# Altium schematic symbol library aKaReZa75-IC.SchLib: 139 symbols (part 2 of 2)
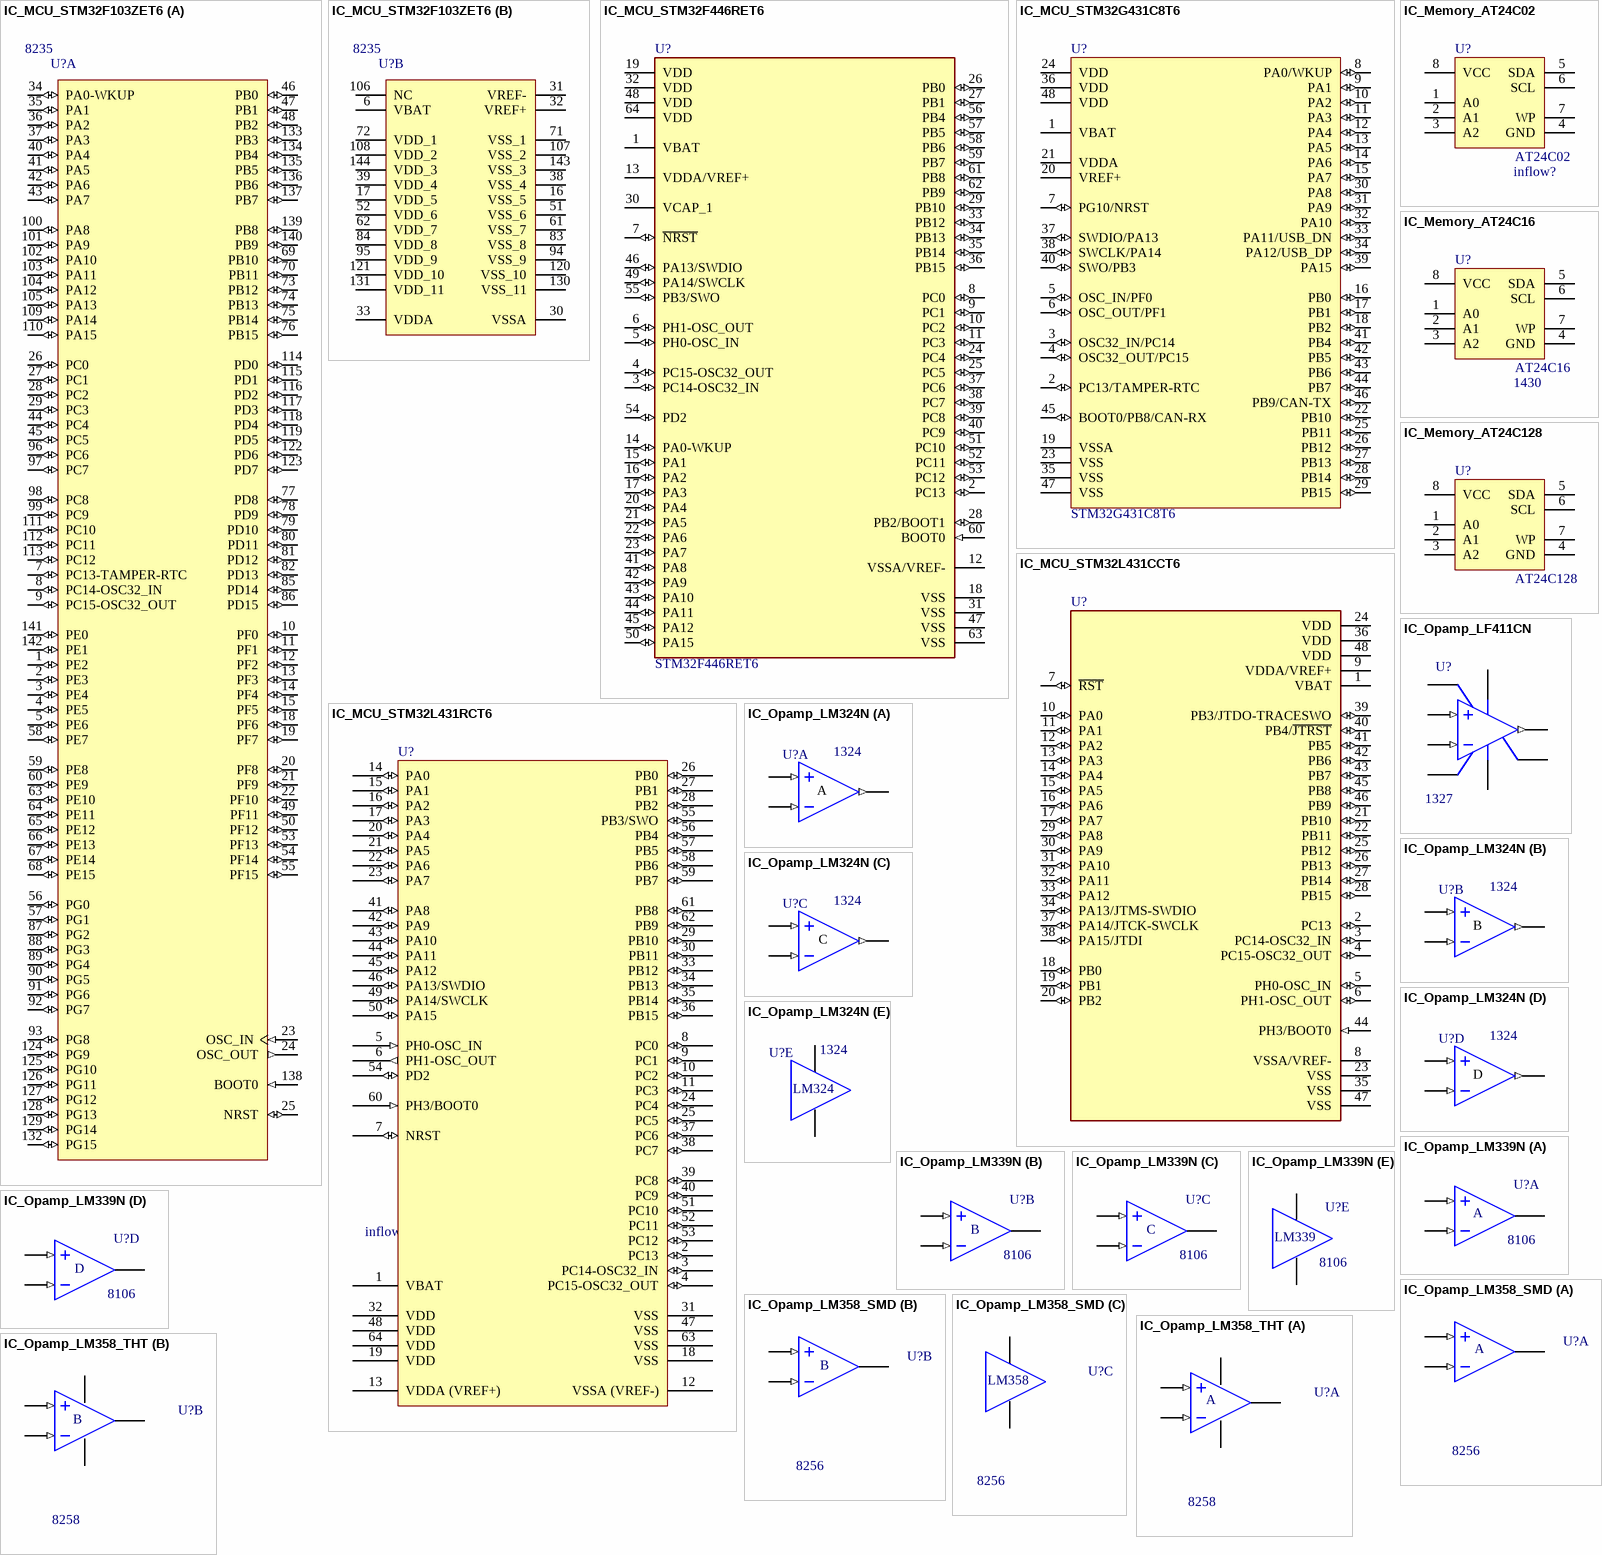
[diagram p7: symbols IC_MCU_STM32F103ZET6 to IC_Opamp_LM358_THT]

## IC_MCU_STM32L431CCT6
designator U?, comment STM32L431RCT6  (value not drawn)
32-Bit microcontroller; Rating: Rating?; Validation: Valid; Inflow: Inflow?; Value: STM32L431RCT6; Package: Package?; Type: Type?
footprint LQFP48_M (Thin QFP, 48-Leads, Body 7x7mm, Pitch 0.5mm, IPC Low Density)
footprint LQFP48_N (Thin QFP, 48-Leads, Body 7x7mm, Pitch 0.5mm, IPC Medium Density)
footprint LQFP48_L (Thin QFP, 48-Leads, Body 7x7mm, Pitch 0.5mm, IPC High Density)
pins: 1 VBAT (power), 2 PC13 (io), 3 PC14-OSC32_IN (io), 4 PC15-OSC32_OUT (io), 5 PH0-OSC_IN (io), 6 PH1-OSC_OUT (io), 7 ~{RST} (io), 8 VSSA/VREF- (power), 9 VDDA/VREF+ (power), 10 PA0 (io), 11 PA1 (io), 12 PA2 (io), 13 PA3 (io), 14 PA4 (io), 15 PA5 (io), 16 PA6 (io), 17 PA7 (io), 18 PB0 (io), 19 PB1 (io), 20 PB2 (io), 21 PB10 (io), 22 PB11 (io), 23 VSS (power), 24 VDD (power), 25 PB12 (io), 26 PB13 (io), 27 PB14 (io), 28 PB15 (io), 29 PA8 (io), 30 PA9 (io), 31 PA10 (io), 32 PA11 (io), 33 PA12 (io), 34 PA13/JTMS-SWDIO (io), 35 VSS (power), 36 VDD (power), 37 PA14/JTCK-SWCLK (io), 38 PA15/JTDI (io), 39 PB3/JTDO-TRACESWO (io), 40 PB4/~{JTRST} (io), 41 PB5 (io), 42 PB6 (io), 43 PB7 (io), 44 PH3/BOOT0 (in), 45 PB8 (io), 46 PB9 (io), 47 VSS (power), 48 VDD (power)

## IC_MCU_STM32L431RCT6
designator U?, comment Inflow: inflow?  (hidden comment: STM32L431RCT6)
32-Bit microcontroller; Rating: Rating?; Validation: NT; Value: STM32L431RCT6; Package: Package?; Type: Type?
footprint LQFP64_L (Thin QFP, 64-Leads, Body 10x10mm, Pitch 0.5mm, IPC High Density)
footprint LQFP64_N (Thin QFP, 64-Leads, Body 10x10mm, Pitch 0.5mm, IPC Medium Density)
footprint LQFP64_M (Thin QFP, 64-Leads, Body 10x10mm, Pitch 0.5mm, IPC Low Density)
pins: 1 VBAT (power) "VCC", 2 PC13 (io), 3 PC14-OSC32_IN (io), 4 PC15-OSC32_OUT (io), 5 PH0-OSC_IN (in), 6 PH1-OSC_OUT (out), 7 NRST (io), 8 PC0 (io), 9 PC1 (io), 10 PC2 (io), 11 PC3 (io), 12 VSSA (VREF-) (power) "GND", 13 VDDA (VREF+) (power) "VCC", 14 PA0 (io), 15 PA1 (io), 16 PA2 (io), 17 PA3 (io), 18 VSS (power) "GND", 19 VDD (power) "VCC", 20 PA4 (io), 21 PA5 (io), 22 PA6 (io), 23 PA7 (io), 24 PC4 (io), 25 PC5 (io), 26 PB0 (io), 27 PB1 (io), 28 PB2 (io), 29 PB10 (io), 30 PB11 (io), 31 VSS (power) "GND", 32 VDD (power) "VCC", 33 PB12 (io), 34 PB13 (io), 35 PB14 (io), 36 PB15 (io), 37 PC6 (io), 38 PC7 (io), 39 PC8 (io), 40 PC9 (io), 41 PA8 (io), 42 PA9 (io), 43 PA10 (io), 44 PA11 (io), 45 PA12 (io), 46 PA13/SWDIO (io), 47 VSS (power) "GND", 48 VDD (power) "VCC", 49 PA14/SWCLK (io), 50 PA15 (io), 51 PC10 (io), 52 PC11 (io), 53 PC12 (io), 54 PD2 (io), 55 PB3/SWO (io), 56 PB4 (io), 57 PB5 (io), 58 PB6 (io), 59 PB7 (io), 60 PH3/BOOT0 (in), 61 PB8 (io), 62 PB9 (io), 63 VSS (power) "GND", 64 VDD (power) "VCC"

## IC_Memory_AT24C02
designator U?, comment Inflow: inflow?  (hidden comment: AT24C02)
EEPROM Memory; Rating: 2K; Validation: Valid; Type: EEPROM; Package: SO-8; Value: AT24C02
footprint dip8
footprint SO8_NARROW_L (8-Pin Small Outline Package (SO8), IPC High Density)
footprint SO8_NARROW_M (8-Pin Small Outline Package (SO8), IPC Low Density)
footprint SO8_NARROW_N (8-Pin Small Outline Package (SO8), IPC Medium Density)
pins: 1 A0 "Address Inputs", 2 A1 "Address Inputs", 3 A2 "Address Inputs", 4 GND "Ground", 5 SDA "Serial Data", 6 SCL "Serial Clock Input", 7 WP "Write Protect", 8 VCC "Power Supply"

## IC_Memory_AT24C16
designator U?, comment Inflow: 1430  (hidden comment: AT24C16)
EEPROM Memory; Rating: 16K; Validation: NT; Type: EEPROM; Package: SO-8; Value: AT24C16
footprint dip8
footprint SO8_NARROW_L (8-Pin Small Outline Package (SO8), IPC High Density)
footprint SO8_NARROW_M (8-Pin Small Outline Package (SO8), IPC Low Density)
footprint SO8_NARROW_N (8-Pin Small Outline Package (SO8), IPC Medium Density)
pins: 1 A0 "Address Inputs", 2 A1 "Address Inputs", 3 A2 "Address Inputs", 4 GND "Ground", 5 SDA "Serial Data", 6 SCL "Serial Clock Input", 7 WP "Write Protect", 8 VCC "Power Supply"

## IC_Memory_AT24C128
designator U?, comment AT24C128
EEPROM Memory; Rating: 128K; Validation: NT; Inflow: inflow?; Type: EEPROM; Package: SO-8; Value: AT24C128
footprint dip8
footprint SO8_NARROW_L (8-Pin Small Outline Package (SO8), IPC High Density)
footprint SO8_NARROW_M (8-Pin Small Outline Package (SO8), IPC Low Density)
footprint SO8_NARROW_N (8-Pin Small Outline Package (SO8), IPC Medium Density)
pins: 1 A0 "Address Inputs", 2 A1 "Address Inputs", 3 A2 "Address Inputs", 4 GND "Ground", 5 SDA "Serial Data", 6 SCL "Serial Clock Input", 7 WP "Write Protect", 8 VCC "Power Supply"

## IC_Opamp_LF411CN
designator U?, comment Inflow: 1327  (hidden comment: LF411)
Low offset, low drift JFET input operational amplifie; Rating: Rating?; Validation: NT; Value: LF411; Package: Package?; Type: Type?
footprint CDIP8 (8-Pin Ceramic DIP (DD8) NARROW_(300mil width) - 100mil pitch)
footprint SOIC8-Narrow (SOIC, 8-Leads, Body 3.0x3.0mm (max), Pitch 1.27mm, IPC Medium Density)
pins: 1 BAL, 2 IN- (in), 3 IN+ (in), 4 V- (power), 5 BAL, 6 OUT (out), 7 V+ (power), 8 NC

## IC_Opamp_LM324N
designator U?, comment Inflow: 1324  (hidden comment: LM324)
Low power quad operational amplifiers; Rating: Rating?; Validation: NT; Value: LM324; Package: Package?; Type: Type?
footprint PDIP14 (14-Pin Plastic DIP (DD14) NARROW_(300mil width) - 100mil pitch)
footprint SOIC14-Narrow
part A pins: 1 OUT (out), 2 IN- (in), 3 IN+ (in)
part B pins: 5 IN+ (in), 6 IN- (in), 7 OUT (out)
part C pins: 8 OUT (out), 9 IN- (in), 10 IN+ (in)
part D pins: 12 IN+ (in), 13 IN- (in), 14 OUT (out)
part E pins: 4 V+, 11 V-
part A text: A
part B text: B
part C text: C
part D text: D

## IC_Opamp_LM339N
designator U?, comment Inflow: 8106  (hidden comment: LM339)
Low power quad voltage comparators; Rating: Rating?; Validation: NT; Value: LM339; Package: Package?; Type: Type?
footprint PDIP14 (14-Pin Plastic DIP (DD14) NARROW_(300mil width) - 100mil pitch)
footprint SOIC14-Narrow
part A pins: 2 OUT (oc), 4 IN- (in), 5 IN+ (in)
part B pins: 1 OUT (oc), 6 IN- (in), 7 IN+ (in)
part C pins: 8 IN- (in), 9 IN+ (in), 14 OUT (oc)
part D pins: 10 IN- (in), 11 IN+ (in), 13 OUT (oc)
part E pins: 3 V+, 12 V-
part A text: A
part B text: B
part C text: C
part D text: D

## IC_Opamp_LM358_SMD
designator U?, comment Inflow: 8256  (hidden comment: LM358)
Dual diffrential comparator; Rating: Rating?; Validation: Valid; Value: LM358; Package: Package?; Type: Type?
footprint SOIC8-Narrow (SOIC, 8-Leads, Body 3.0x3.0mm (max), Pitch 1.27mm, IPC Medium Density)
part A pins: 1 OUT (oc), 2 IN- (in), 3 IN+ (in)
part B pins: 5 IN+ (in), 6 IN- (in), 7 OUT (oc)
part C pins: 4 V-, 8 V+
part A text: A
part B text: B

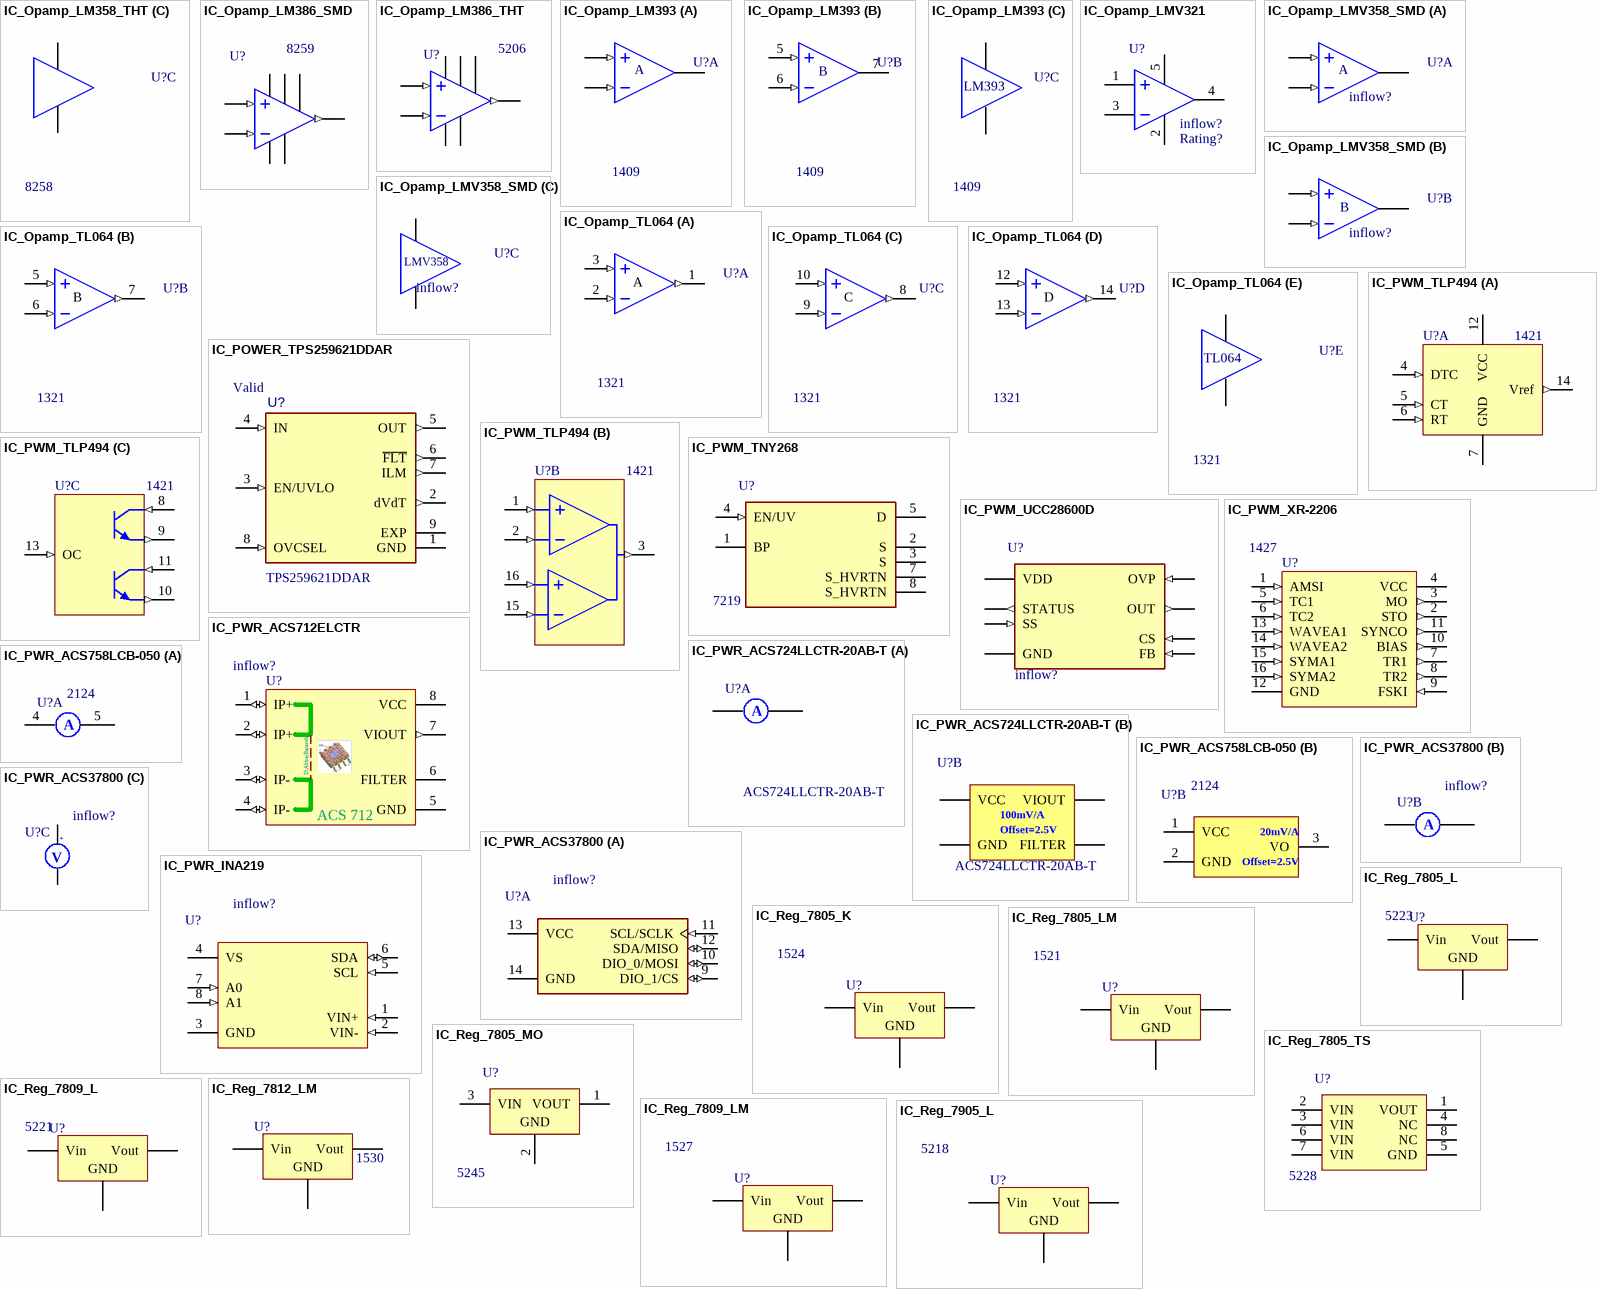
[diagram p5: symbols IC_Opamp_LM358_THT to IC_Reg_7905_L]

## IC_Opamp_LM358_THT
designator U?, comment Inflow: 8258  (hidden comment: LM358)
Dual diffrential comparator; Rating: Rating?; Validation: NT; Value: LM358; Package: Package?; Type: Type?
footprint CDIP8 (8-Pin Ceramic DIP (DD8) NARROW_(300mil width) - 100mil pitch)
pins on every part: 4 V- (power), 8 V+ (power)
part A pins: 1 OUT (oc), 2 IN- (in), 3 IN+ (in)
part B pins: 5 IN+ (in), 6 IN- (in), 7 OUT (oc)
part A text: A
part B text: B

## IC_Opamp_LM386_SMD
designator U?, comment Inflow: 8259  (hidden comment: LM386)
Low voltage audio power amplifier; Rating: Rating?; Validation: NT; Value: LM386; Package: Package?; Type: Type?
footprint SOIC8-Narrow (SOIC, 8-Leads, Body 3.0x3.0mm (max), Pitch 1.27mm, IPC Medium Density)
pins: 1 Gain (power), 2 IN- (in), 3 IN+ (in), 4 V- (power), 5 OUT (out), 6 V+ (power), 7 byPass (power), 8 Gain (power)

## IC_Opamp_LM386_THT
designator U?, comment Inflow: 5206  (hidden comment: LM386)
Low voltage audio power amplifier; Rating: Rating?; Validation: NT; Value: LM386; Package: Package?; Type: Type?
footprint CDIP8 (8-Pin Ceramic DIP (DD8) NARROW_(300mil width) - 100mil pitch)
pins: 1 Gain (power), 2 IN- (in), 3 IN+ (in), 4 V- (power), 5 OUT (out), 6 V+ (power), 7 byPass (power), 8 Gain (power)

## IC_Opamp_LM393
designator U?, comment Inflow: 1409  (hidden comment: LM393)
Dual diffrential comparator; Rating: Rating?; Validation: NT; Value: LM393; Package: Package?; Type: Type?
footprint CDIP8 (8-Pin Ceramic DIP (DD8) NARROW_(300mil width) - 100mil pitch)
footprint SOIC8-Narrow (SOIC, 8-Leads, Body 3.0x3.0mm (max), Pitch 1.27mm, IPC Medium Density)
part A pins: 1 OUT (oc), 2 IN- (in), 3 IN+ (in)
part B pins: 5 IN+ (in), 6 IN- (in), 7 OUT (oc)
part C pins: 4 V-, 8 V+
part A text: A
part B text: B

## IC_Opamp_LMV321
designator U?, comment Rating: Rating?  Inflow: inflow?  (hidden comment: LMV321)
Low-Voltage Rail-To-Rail Output Operational Amplifiers; Validation: Valid; Value: LMV321; Package: SOT-23-5; Type: Op-Amp
footprint SOT-23-5 (SOT-23/SC-74A; 5 Leads; Body 3 x 3 mm, inc. leads (LxW max))
pins: 1 1IN+ "Non-inverting input 1", 2 GND "Ground", 3 1IN– "Inverting input 1", 4 1OUT "Output 1", 5 VCC "Positive supply voltage"

## IC_Opamp_LMV358_SMD
designator U?, comment Inflow: inflow?  (hidden comment: LMV358)
Dual diffrential comparator; Rating: Rating?; Validation: NT; Package: SOIC-8; Value: LMV358; Type: Op-Amp
footprint SOIC8-Narrow (SOIC, 8-Leads, Body 3.0x3.0mm (max), Pitch 1.27mm, IPC Medium Density)
footprint PDIP-8 (PDIP, 8-Leads, Body 9.5x6.604mm, Pitch 2.54mm)
part A pins: 1 OUT (oc), 2 IN- (in), 3 IN+ (in)
part B pins: 5 IN+ (in), 6 IN- (in), 7 OUT (oc)
part C pins: 4 V-, 8 V+
part A text: A
part B text: B

## IC_Opamp_TL064
designator U?, comment Inflow: 1321  (hidden comment: TL064)
Low power JFET input operational amplifiers; Rating: Rating?; Validation: NT; Value: TL064; Package: Package?; Type: Type?
footprint PDIP14 (14-Pin Plastic DIP (DD14) NARROW_(300mil width) - 100mil pitch)
footprint SOIC14-Narrow
part A pins: 1 OUT (out), 2 IN- (in), 3 IN+ (in)
part B pins: 5 IN+ (in), 6 IN- (in), 7 OUT (out)
part C pins: 8 OUT (out), 9 IN- (in), 10 IN+ (in)
part D pins: 12 IN+ (in), 13 IN- (in), 14 OUT (out)
part E pins: 4 V+, 11 V-
part A text: A
part B text: B
part C text: C
part D text: D

## IC_POWER_TPS259621DDAR
designator U?, comment Validation: Valid  (hidden comment: TPS259621DDAR)
2.7-V to 19-V, 85mΩ, 0.13-2A eFuse with selectable over voltage protection clamp in leaded package; Rating: Rating?; Inflow: inflow?; Type: eFUSE; Package: SO-8; Value: TPS259621DDAR
footprint IC_TPS259621DDAR
pins: 1 GND (power), 2 dVdT (out), 3 EN/UVLO (in), 4 IN (in), 5 OUT (out), 6 ~{FLT} (out), 7 ILM (out), 8 OVCSEL (in), 9 EXP (power)

## IC_PWM_TLP494
designator U?, comment Inflow: 1421  (hidden comment: TLP494)
Pulse width modulation (PWM) control; Rating: Rating?; Validation: Valid; Value: TLP494; Package: Package?; Type: Type?
footprint PDIP16 (16-Pin Plastic DIP (DD16) NARROW_(300mil width) - 100mil pitch)
part A pins: 4 DTC (in) "Dead time control", 5 CT (in), 6 RT (in), 7 GND (power), 12 VCC (power), 14 Vref (out) "5'V References"
part B pins: 1 IN1+ (in) "V_FeedBack", 2 IN1- (in) "V_References", 3 Comp (out) "Feedback PWM  Comparator Input", 15 IN2- (in) "I_References", 16 IN2+ (in) "I_FeedBack"
part C pins: 8 C1 (in), 9 E1 (out), 10 E2 (out), 11 C2 (in), 13 OC (in) "VCC->PushPull, GND-> Single Ended"

## IC_PWM_TNY268
designator U?, comment Inflow: 7219  (hidden comment: TNY268)
Converter Offline Flyback Topology 132K'Hz, 23'Watt; Rating: Rating?; Validation: Valid; Value: TNY268; Package: Package?; Type: Type?
footprint TNY268
pins: 1 BP, 2 S, 3 S, 4 EN/UV (in), 5 D, 7 S_HVRTN, 8 S_HVRTN

## IC_PWM_UCC28600D
designator U?, comment Inflow: inflow?  (hidden comment: UCC28600D)
8-pin quasi resonant Flyback green mode controller; Rating: Rating?; Validation: NT; Value: UCC28600D; Package: Package?; Type: Type?
footprint SOIC-8 (SOIC, 8-Leads, Body 4/90x3/90mm, Pitch 1/27mm, IPC Medium Density)
pins: 1 SS (in), 2 FB (in), 3 CS (in), 4 GND (power), 5 OUT (out), 6 VDD (power), 7 OVP (in), 8 STATUS (out)

## IC_PWM_XR-2206
designator U?, comment Inflow: 1427  (hidden comment: XR-2206)
Monolithic function generator; Rating: Rating?; Validation: NT; Value: XR-2206; Package: Package?; Type: Type?
footprint PDIP16 (16-Pin Plastic DIP (DD16) NARROW_(300mil width) - 100mil pitch)
pins: 1 AMSI (in), 2 STO (out), 3 MO (out), 4 VCC (power), 5 TC1 (in), 6 TC2 (in), 7 TR1 (out), 8 TR2 (out), 9 FSKI (in), 10 BIAS (out), 11 SYNCO (out), 12 GND (power), 13 WAVEA1 (in), 14 WAVEA2 (in), 15 SYMA1 (in), 16 SYMA2 (in)

## IC_PWR_ACS712ELCTR
designator U?, comment Inflow: inflow?  (hidden comment: ACS712-5A)
Fully Integrated, Hall Effect-Based Linear Current Sensor IC  with 2.1 kVRMS Isolation and a Low-Resistance Current Conductor; Rating: Rating?; Validation: NT; Value: ACS712-5A; Package: Package?; Type: Type?
footprint 8S2_N (SOP, 8-Leads, Body 5.3x5.3mm, Pitch 1.27mm, IPC Medium Density)
footprint 8S2_L (SOP, 8-Leads, Body 5.3x5.3mm, Pitch 1.27mm, IPC High Density)
footprint 8S2_M (SOP, 8-Leads, Body 5.3x5.3mm, Pitch 1.27mm, IPC Low Density)
pins: 1 IP+ (io), 2 IP+ (io), 3 IP- (io), 4 IP- (io), 5 GND (power), 6 FILTER, 7 VIOUT (out), 8 VCC (power)
text: D:AbbasBasereh; ACS 712

## IC_PWR_ACS724LLCTR-20AB-T
designator U?, comment ACS724LLCTR-20AB-T
Automotive-Grade, Galvanically Isolated Current Sensor IC with Common-Mode Field Rejection in a Small-Footprint SOIC-8 Package; Rating: 20A; Validation: NT; Inflow: inflow?; Package: SOIC-8; Type: Current Sensors; Value: ACS724LLCTR-20AB-T
footprint SOP-8_N (8-Pin Small Outline Integrated Circuit 1.27 mm Pitch, IPC Medium Density)
footprint SOP-8_M (8-Pin Small Outline Integrated Circuit 1.27 mm Pitch, IPC Low Density)
footprint SOP-8_L (8-Pin Small Outline Integrated Circuit 1.27 mm Pitch, IPC High Density)
part A pins: 1,2 Ip+, 3,4 Ip-
part B pins: 5 GND (power), 6 FILTER, 7 VIOUT, 8 VCC (power)
part A text: A
part B text: 100mV/A; Offset=2.5V

## IC_PWR_ACS758LCB-050
designator U?, comment Inflow: 2124  (hidden comment: 50'A)
Current Sensor; Rating: Rating?; Validation: NT; Value: 50'A; Package: Package?; Type: Type?
footprint ACS752SCA-100
part A pins: 4 Ip+, 5 Ip-
part B pins: 1 VCC (power), 2 GND (power), 3 VO
part A text: A
part B text: 20mV/A; Offset=2.5V

## IC_PWR_ACS37800
designator U?, comment Inflow: inflow?  (hidden comment: ACS37800)
The ACS37800 simplifies power monitoring in AC and DC systems, providing accurate measurements of active, reactive, and apparent power, along with RMS voltage, current, and integrated fault protection.; Rating: 90A; Validation: NT; Value: ACS37800; Package: SOIC-16; Type: Type?
footprint SOIC127P1030X265-16N
part A pins: 9 DIO_1/CS (io), 10 DIO_0/MOSI (io), 11 SCL/SCLK (in), 12 SDA/MISO (io), 13 VCC (power), 14 GND (power)
part B pins: 1,2,3,4 Ip+, 5,6,7,8 Ip-
part C pins: 15 VINN, 16 VINP
part B text: A
part C text: +; V

## IC_PWR_INA219
designator U?, comment Inflow: inflow?  (hidden comment: INA219)
26-V 12-bit I2C output digital power monitor; Rating: 26V; Validation: NT; Value: INA219; Package: SOT-23-8; Type: Type?
footprint SOT65P280X145-8N
pins: 1 VIN+ (in), 2 VIN- (in), 3 GND (power), 4 VS (power), 5 SCL (in), 6 SDA (io), 7 A0 (in), 8 A1 (in)

## IC_Reg_7805_K
designator U?, comment Inflow: 1524  (hidden comment: 5'V, 1'A)
Linear Voltage Regulator IC posetive FIXED; Rating: Rating?; Validation: Valid; Value: 5'V, 1'A; Package: Package?; Type: Type?
footprint TO-3; pin to pad 1>3 3>1
pins: 1 Vin, 2 GND, 3 Vout

## IC_Reg_7805_L
designator U?, comment Inflow: 5223  (hidden comment: 5'V, 0.1'A)
Linear Voltage Regulator IC Positive FIXED; Rating: Rating?; Validation: NT; Value: 5'V, 0.1'A; Package: Package?; Type: Type?
footprint TO-92 BENT (DESIGNER :ABBAS BASEREH)
footprint TO-92 CF (DESIGNER :ABBAS BASEREH)
footprint TO-92 STR (DESIGNER :ABBAS BASEREH)
pins: 1 Vout, 2 GND, 3 Vin

## IC_Reg_7805_LM
designator U?, comment Inflow: 1521  (hidden comment: 5'V, 1'A)
Linear Voltage Regulator IC posetive FIXED; Rating: Rating?; Validation: Valid; Value: 5'V, 1'A; Package: Package?; Type: Type?
footprint TO-220 AB WITH HEAT SINK (Epoxy meets UL94, V0)
footprint TO-220 AB (Epoxy meets UL94, V0)
footprint TO-220 AB S (Epoxy meets UL94, V0)
footprint TO-220 AB WITH HEAT SINK ASM
footprint TO-220 AB with heatsink ya25 (Epoxy meets UL94, V0-Design:Abbas Basereh)
footprint TO-3; pin to pad 1>3 3>1
pins: 1 Vin, 2 GND, 3 Vout

## IC_Reg_7805_MO
designator U?, comment Inflow: 5245  (hidden comment: 5'V, 0.1'A)
0.1'A Positive voltage regulator; Rating: Rating?; Validation: NT; Value: 5'V, 0.1'A; Package: Package?; Type: Type?
footprint SOT-89_L (SOT89, 3-Leads, Body 4.6x2.6 mm, Pitch 1.5mm, Lead Span 4.1mm, IPC High Density)
footprint SOT-89_N (SOT89, 3-Leads, Body 4.6x2.6 mm, Pitch 1.5mm, Lead Span 4.1mm, IPC Medium Density)
footprint SOT-89_M (SOT89, 3-Leads, Body 4.6x2.6 mm, Pitch 1.5mm, Lead Span 4.1mm, IPC Low Density)
pins: 1 VOUT (power), 2 GND (power), 3 VIN (power)

## IC_Reg_7805_TS
designator U?, comment Inflow: 5228  (hidden comment: 5'V, 0.15'A)
0.15'A Pottive voltage regulator; Rating: Rating?; Validation: NT; Value: 5'V, 0.15'A; Package: Package?; Type: Type?
footprint SO8_narrow_n (8-Pin Small Outline Package (SO8), IPC Medium Density)
footprint SO8_narrow_m (8-Pin Small Outline Package (SO8), IPC Low Density)
footprint SO8_narrow_l (8-Pin Small Outline Package (SO8), IPC High Density)
pins: 1 VOUT (power), 2 VIN (power), 3 VIN (power), 4 NC, 5 GND (power), 6 VIN (power), 7 VIN (power), 8 NC

## IC_Reg_7809_L
designator U?, comment Inflow: 5221  (hidden comment: 9'V, 0.1'A)
Linear Voltage Regulator IC Positive FIXED; Rating: Rating?; Validation: NT; Value: 9'V, 0.1'A; Package: Package?; Type: Type?
footprint TO-92 BENT (DESIGNER :ABBAS BASEREH)
footprint TO-92 CF (DESIGNER :ABBAS BASEREH)
footprint TO-92 STR (DESIGNER :ABBAS BASEREH)
pins: 1 Vout, 2 GND, 3 Vin

## IC_Reg_7809_LM
designator U?, comment Inflow: 1527  (hidden comment: 9'V, 1'A)
Linear Voltage Regulator IC posetive FIXED; Rating: Rating?; Validation: NT; Value: 9'V, 1'A; Package: Package?; Type: Type?
footprint TO-220 AB WITH HEAT SINK (Epoxy meets UL94, V0)
footprint TO-220 AB (Epoxy meets UL94, V0)
footprint TO-220 AB S (Epoxy meets UL94, V0)
footprint TO-220 AB WITH HEAT SINK ASM
footprint TO-220 AB with heatsink ya25 (Epoxy meets UL94, V0-Design:Abbas Basereh)
footprint TO-3; pin to pad 1>3 3>1
pins: 1 Vin, 2 GND, 3 Vout

## IC_Reg_7812_LM
designator U?, comment Inflow: 1530  (hidden comment: 12V)
Linear Voltage Regulator IC posetive FIXED; Rating: 1A; Validation: NT; Package: TO-220; Value: 12V; Type: Linear
footprint TO-220 AB WITH HEAT SINK (Epoxy meets UL94, V0)
footprint TO-220 AB (Epoxy meets UL94, V0)
footprint TO-220 AB S (Epoxy meets UL94, V0)
footprint TO-220 AB WITH HEAT SINK ASM
footprint TO-220 AB with heatsink ya25 (Epoxy meets UL94, V0-Design:Abbas Basereh)
footprint TO-3; pin to pad 1>3 3>1
pins: 1 Vin, 2 GND, 3 Vout

## IC_Reg_7905_L
designator U?, comment Inflow: 5218  (hidden comment: -5'V, 0.1'A)
Linear Voltage Regulator IC negative FIXED; Rating: Rating?; Validation: NT; Value: -5'V, 0.1'A; Package: Package?; Type: Type?
footprint TO-92 BENT (DESIGNER :ABBAS BASEREH)
footprint TO-92 CF (DESIGNER :ABBAS BASEREH)
footprint TO-92 STR (DESIGNER :ABBAS BASEREH)
pins: 1 Vout, 2 GND, 3 Vin

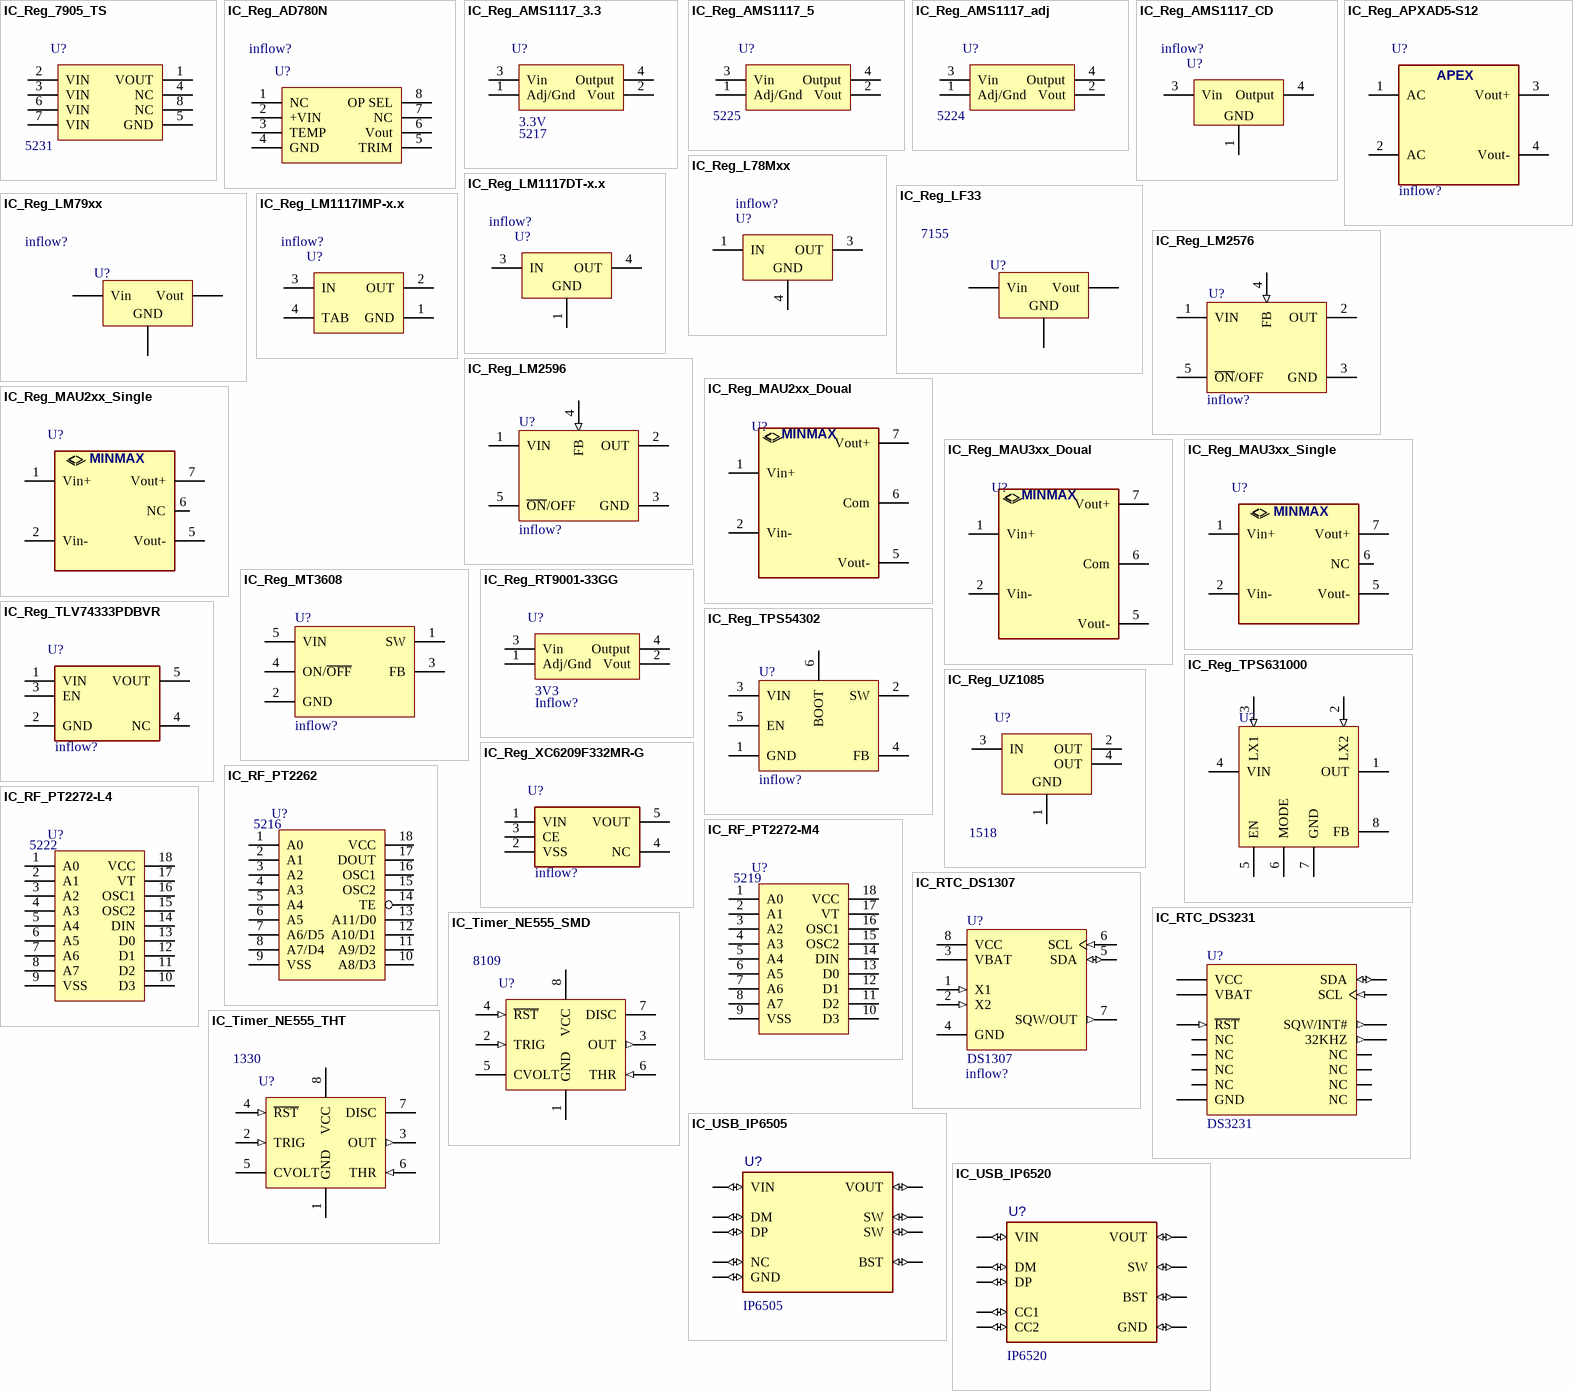
[diagram p6: symbols IC_Reg_7905_TS to IC_USB_IP6520]

## IC_Reg_7905_TS
designator U?, comment Inflow: 5231  (hidden comment: -5'V, 0.15'A)
0.15'A Negative voltage regulator; Rating: Rating?; Validation: NT; Value: -5'V, 0.15'A; Package: Package?; Type: Type?
footprint SO8_narrow_n (8-Pin Small Outline Package (SO8), IPC Medium Density)
footprint SO8_narrow_m (8-Pin Small Outline Package (SO8), IPC Low Density)
footprint SO8_narrow_l (8-Pin Small Outline Package (SO8), IPC High Density)
pins: 1 VOUT (power), 2 VIN (power), 3 VIN (power), 4 NC, 5 GND (power), 6 VIN (power), 7 VIN (power), 8 NC

## IC_Reg_AD780N
designator U?, comment Inflow: inflow?  (hidden comment: AD780N)
2.5 V/3.0 V  High Precision Reference; Rating: Rating?; Validation: NT; Value: AD780N; Package: Package?; Type: Type?
footprint PDIP8 (8-Pin Plastic DIP (PD8) NARROW_(300mil width) - 100mil pitch)
footprint CDIP8 (8-Pin Ceramic DIP (DD8) NARROW_(300mil width) - 100mil pitch)
footprint SO8_narrow_n (8-Pin Small Outline Package (SO8), IPC Medium Density)
footprint SO8_narrow_m (8-Pin Small Outline Package (SO8), IPC Low Density)
footprint SO8_narrow_l (8-Pin Small Outline Package (SO8), IPC High Density)
pins: 1 NC, 2 +VIN, 3 TEMP, 4 GND, 5 TRIM, 6 Vout, 7 NC, 8 OP SEL

## IC_Reg_AMS1117_3.3
designator U?, comment Inflow: 5217  (hidden comment: 3.3V)
1'A Positive voltage regulator; Rating: 1A; Validation: Valid; Type: LDO; Package: SOT223; Value: 3.3V
footprint SOT223_L (SOT223, 4-Leads, Body 6.5x3.5mm, Pitch 2.3mm, Lead Span 7mm, IPC High Density)
footprint SOT223_N (SOT223, 4-Leads, Body 6.5x3.5mm, Pitch 2.3mm, Lead Span 7mm, IPC Medium Density)
footprint SOT223_M (SOT223, 4-Leads, Body 6.5x3.5mm, Pitch 2.3mm, Lead Span 7mm, IPC Low Density)
pins: 1 Adj/Gnd, 2 Vout, 3 Vin, 4 Output

## IC_Reg_AMS1117_5
designator U?, comment Inflow: 5225  (hidden comment: 5'V, 1'A)
1'A Positive voltage regulator; Rating: Rating?; Validation: NT; Value: 5'V, 1'A; Package: Package?; Type: Type?
footprint SOT223_L (SOT223, 4-Leads, Body 6.5x3.5mm, Pitch 2.3mm, Lead Span 7mm, IPC High Density)
footprint SOT223_N (SOT223, 4-Leads, Body 6.5x3.5mm, Pitch 2.3mm, Lead Span 7mm, IPC Medium Density)
footprint SOT223_M (SOT223, 4-Leads, Body 6.5x3.5mm, Pitch 2.3mm, Lead Span 7mm, IPC Low Density)
pins: 1 Adj/Gnd, 2 Vout, 3 Vin, 4 Output

## IC_Reg_AMS1117_adj
designator U?, comment Inflow: 5224  (hidden comment: adj'V, 1'A)
1'A Positive voltage regulator; Rating: Rating?; Validation: NT; Value: adj'V, 1'A; Package: Package?; Type: Type?
footprint SOT223_L (SOT223, 4-Leads, Body 6.5x3.5mm, Pitch 2.3mm, Lead Span 7mm, IPC High Density)
footprint SOT223_N (SOT223, 4-Leads, Body 6.5x3.5mm, Pitch 2.3mm, Lead Span 7mm, IPC Medium Density)
footprint SOT223_M (SOT223, 4-Leads, Body 6.5x3.5mm, Pitch 2.3mm, Lead Span 7mm, IPC Low Density)
pins: 1 Adj/Gnd, 2 Vout, 3 Vin, 4 Output

## IC_Reg_AMS1117_CD
designator U?, comment Inflow: inflow?  (hidden comment: AMS1117CD)
800mA LOW DROPOUT VOLTAGE REGULATOR; Rating: Rating?; Validation: NT; Value: AMS1117CD; Package: Package?; Type: Type?
footprint TO252-3L (D-PAK, 3-Pads, Body 6.2x6.7mm (max), IPC High Density)
footprint TO252-3M (D-PAK, 3-Pads, Body 6.2x6.7mm (max), IPC Low Density)
footprint TO252-3N (D-PAK, 3-Pads, Body 6.2x6.7mm (max), IPC Medium Density)
pins: 1 GND, 3 Vin, 4 Output

## IC_Reg_APXAD5-S12
designator U?, comment Inflow: inflow?  (hidden comment: 12V)
12V 5W AC/DC Converter; Validation: NT; Type: Isolate; Rating: 5W; Package: Dip; Value: 12V
footprint APXAD5-S12
pins: 1 AC, 2 AC, 3 Vout+, 4 Vout-
text: APEX

## IC_Reg_L78Mxx
designator U?, comment Inflow: inflow?  (hidden comment: 78M05)
Precision 500mA Regulator; Rating: Rating?; Validation: NT; Value: 78M05; Package: Package?; Type: Type?
footprint TO252-3L (D-PAK, 3-Pads, Body 6.2x6.7mm (max), IPC High Density)
footprint TO-263 (D2-PAK/TO-263-AB; 3 Leads (1 Cropped); Body 15.9 (inc. leads) x 10.4 mm (LxW max))
footprint TO252-3N (D-PAK, 3-Pads, Body 6.2x6.7mm (max), IPC Medium Density)
footprint TO252-3M (D-PAK, 3-Pads, Body 6.2x6.7mm (max), IPC Low Density)
pins: 1 IN (power), 3 OUT (power), 4 GND (power)

## IC_Reg_LF33
designator U?, comment Inflow: 7155  (hidden comment: LF33)
Very low drop voltage regulators with inhibit 3.3'V; Rating: Rating?; Validation: NT; Value: LF33; Package: Package?; Type: Type?
footprint TO-220 AB WITH HEAT SINK (Epoxy meets UL94, V0)
footprint TO-220 AB (Epoxy meets UL94, V0)
footprint TO-220 AB S (Epoxy meets UL94, V0)
footprint TO-220 AB WITH HEAT SINK ASM
footprint TO-220 AB with heatsink ya25 (Epoxy meets UL94, V0-Design:Abbas Basereh)
pins: 1 Vin, 2 GND, 3 Vout

## IC_Reg_LM79xx
designator U?, comment Inflow: inflow?  (hidden comment: -5'V, 1'A)
Linear Voltage Regulator IC negative FIXED; Rating: Rating?; Validation: NT; Value: -5'V, 1'A; Package: Package?; Type: Type?
footprint TO-220 AB WITH HEAT SINK (Epoxy meets UL94, V0)
footprint TO-220 AB (Epoxy meets UL94, V0)
footprint TO-220 AB S (Epoxy meets UL94, V0)
footprint TO-220 AB WITH HEAT SINK ASM
footprint TO-220 AB with heatsink ya25 (Epoxy meets UL94, V0-Design:Abbas Basereh)
footprint TO-3; pin to pad 1>3 3>1
pins: 1 Vin, 2 GND, 3 Vout

## IC_Reg_LM1117DT-x.x
designator U?, comment Inflow: inflow?  (hidden comment: LM1117DT)
x.x Volt, 800mA Low-Dropout Linear Regulator, 3-pin TO-252; Rating: Rating?; Validation: NT; Value: LM1117DT; Package: Package?; Type: Type?
footprint TD03B_L (D-PAK, 4-Leads, Body 6.1x6.6mm, Pitch 2.29mm, Lead Span 9.7mm, IPC High Density)
footprint TD03B_M (D-PAK, 4-Leads, Body 6.1x6.6mm, Pitch 2.29mm, Lead Span 9.7mm, IPC Low Density)
footprint TD03B_N (D-PAK, 4-Leads, Body 6.1x6.6mm, Pitch 2.29mm, Lead Span 9.7mm, IPC Medium Density)
pins: 1 GND (power), 3 IN (power), 4 OUT (power)

## IC_Reg_LM1117IMP-x.x
designator U?, comment Inflow: inflow?  (hidden comment: LM1117MP)
x.x Volt, 800mA Low-Dropout Linear Regulator, 4-pin SOT-223; Rating: Rating?; Validation: NT; Value: LM1117MP; Package: Package?; Type: Type?
footprint MP04A_L (SOT223, 4-Leads, Body 6.5x3.5mm, Pitch 2.3mm, Lead Span 7mm, IPC High Density)
footprint MP04A_M (SOT223, 4-Leads, Body 6.5x3.5mm, Pitch 2.3mm, Lead Span 7mm, IPC Low Density)
footprint MP04A_N (SOT223, 4-Leads, Body 6.5x3.5mm, Pitch 2.3mm, Lead Span 7mm, IPC Medium Density)
pins: 1 GND (power), 2 OUT (power), 3 IN (power), 4 TAB (power)

## IC_Reg_LM2576
designator U?, comment Inflow: inflow?  (hidden comment: Value?)
Simple switcher 3'A step-down voltage regulator; Rating: S; Validation: Valid; Value: Value?; Package: TO-263; Type: Switching
footprint TO-220_5 with heatsink (TO-220 STRAIGHT, T05A pitch: 1.7mm-Designer Abbas Basereh)
footprint TO-220_5 with heatsink HS sot32 (TO-220 STRAIGHT, T05A pitch: 1.7mm-Designer Abbas Basereh)
footprint TO-220_5 (TO-220 STRAIGHT, T05A pitch: 1.7mm-Designer Abbas Basereh)
footprint TO-220_5 - with heatsink ya25 (TO-220 STRAIGHT, T05A pitch: 1.7mm-Designer Abbas Basereh)
footprint D2PAK_TO-263-5 (D2-PAK, 6-Pads, Body 7.5x10.2mm (max), IPC Medium Density)
pins: 1 VIN (power), 2 OUT (power), 3 GND (power), 4 FB (in), 5 ~{ON}/OFF (power)

## IC_Reg_LM2596
designator U?, comment Inflow: inflow?  (hidden comment: Value?)
Simple switcher 3'A step-down voltage regulator; Rating: S; Validation: Valid; Value: Value?; Type: Switching; Package: TO-263
footprint TO-220_5 with heatsink (TO-220 STRAIGHT, T05A pitch: 1.7mm-Designer Abbas Basereh)
footprint TO-220_5 with heatsink HS sot32 (TO-220 STRAIGHT, T05A pitch: 1.7mm-Designer Abbas Basereh)
footprint TO-220_5 (TO-220 STRAIGHT, T05A pitch: 1.7mm-Designer Abbas Basereh)
footprint TO-220_5 - with heatsink ya25 (TO-220 STRAIGHT, T05A pitch: 1.7mm-Designer Abbas Basereh)
footprint D2PAK_TO-263-5 (D2-PAK, 6-Pads, Body 7.5x10.2mm (max), IPC Medium Density)
pins: 1 VIN (power), 2 OUT (power), 3 GND (power), 4 FB (in), 5 ~{ON}/OFF (power)

## IC_Reg_MAU2xx_Doual
designator U?, comment 3.3'V, 1'W  (value not drawn)
1W Isolate DC-DC Converter; Inflow: inflow?; Rating: Rating?; Validation: NT; Value: 3.3'V, 1'W; Package: Package?; Type: Type?
footprint MINMAX_MAU200 (Footprint not found)
pins: 1 Vin+, 2 Vin-, 5 Vout-, 6 Com, 7 Vout+
text: MINMAX

## IC_Reg_MAU2xx_Single
designator U?, comment 3.3'V, 1'W  (value not drawn)
1W Isolate DC-DC Converter; Inflow: inflow?; Rating: Rating?; Validation: NT; Value: 3.3'V, 1'W; Package: Package?; Type: Type?
footprint MINMAX_MAU200 (Footprint not found)
pins: 1 Vin+, 2 Vin-, 5 Vout-, 6 NC, 7 Vout+
text: MINMAX

## IC_Reg_MAU3xx_Doual
designator U?, comment 3.3'V, 1'W  (value not drawn)
1W Isolate DC-DC Converter; Inflow: inflow?; Rating: Rating?; Validation: NT; Value: 3.3'V, 1'W; Package: Package?; Type: Type?
footprint MINMAX_MAU300 (DC-DC Module, MAU200)
pins: 1 Vin+, 2 Vin-, 5 Vout-, 6 Com, 7 Vout+
text: MINMAX

## IC_Reg_MAU3xx_Single
designator U?, comment 3.3'V, 1'W  (value not drawn)
1W Isolate DC-DC Converter; Inflow: inflow?; Rating: Rating?; Validation: Valid; Value: 3.3'V, 1'W; Package: Package?; Type: Type?
footprint MINMAX_MAU300 (DC-DC Module, MAU200)
pins: 1 Vin+, 2 Vin-, 5 Vout-, 6 NC, 7 Vout+
text: MINMAX

## IC_Reg_MT3608
designator U?, comment Inflow: inflow?  (hidden comment: Value?)
Simple switcher 2'A step-UP voltage regulator; Rating: S; Validation: Valid; Value: Value?; Type: Switching; Package: SOT-23-6
footprint MT3608 (SOT-457/SC-74; 6 Leads; Body 3 x 3 mm, inc. leads (LxW max))
pins: 1 SW (power), 2 GND (power), 3 FB (power), 4 ON/~{OFF} (power), 5 VIN (power)

## IC_Reg_RT9001-33GG
designator U?, comment Inflow: Inflow?  (hidden comment: 3V3)
Fixed LDO Voltage Regulator 3.3V 600mA SOT-223; Validation: Valid; Rating: 600mA; Type: LDO; Package: SOT223; Value: 3V3
footprint SOT223_L (SOT223, 4-Leads, Body 6.5x3.5mm, Pitch 2.3mm, Lead Span 7mm, IPC High Density)
footprint SOT223_N (SOT223, 4-Leads, Body 6.5x3.5mm, Pitch 2.3mm, Lead Span 7mm, IPC Medium Density)
footprint SOT223_M (SOT223, 4-Leads, Body 6.5x3.5mm, Pitch 2.3mm, Lead Span 7mm, IPC Low Density)
pins: 1 Adj/Gnd, 2 Vout, 3 Vin, 4 Output

## IC_Reg_TLV74333PDBVR
designator U?, comment Inflow: inflow?  (hidden comment: 3.3V)
Fixed LDO Voltage Regulator 3.3V 300mA SOT-23-5; Rating: 300m; Validation: Valid; Type: LDO; Package: SOT-23-5; Value: 3.3V
footprint SOT95P280X130-5N
pins: 1 VIN, 2 GND, 3 EN, 4 NC, 5 VOUT

## IC_Reg_TPS54302
designator U?, comment Inflow: inflow?  (hidden comment: Value?)
3'A Synchronous Step-Down Converter; Rating: S; Validation: Valid; Value: Value?; Type: Switching; Package: SOT-23-6
footprint TPS54302 (SOT-457/SC-74; 6 Leads; Body 3 x 3 mm, inc. leads (LxW max))
pins: 1 GND (power), 2 SW (power), 3 VIN (power), 4 FB (power), 5 EN (power), 6 BOOT (power)

## IC_Reg_TPS631000
designator U?, comment Inflow: inflow?  (hidden comment: Value?)
Footprint in IC Eshtebahhee, faghat ezafe shode. / Simple switcher 1.5'A step-down/Step-UP voltage regulator; Rating: S; Validation: NT; Value: Value?; Type: Switching; Package: SOT-583
footprint SOIC-8 (SOIC, 8-Leads, Body 4/90x3/90mm, Pitch 1/27mm, IPC Medium Density)
pins: 1 OUT (power), 2 LX2 (in), 3 LX1 (in), 4 VIN (power), 5 EN (power), 6 MODE (power), 7 GND (power), 8 FB (power)

## IC_Reg_UZ1085
designator U?, comment Inflow: 1518  (hidden comment: Adj, 3'A)
3'A  Adjustable/fixed low dropout linear regulator; Rating: Rating?; Validation: NT; Value: Adj, 3'A; Package: Package?; Type: Type?
footprint TO254P-3N
pins: 1 GND (power), 2 OUT (power), 3 IN (power), 4 OUT (power)

## IC_Reg_XC6209F332MR-G
designator U?, comment Inflow: inflow?  (hidden comment: 3.3V)
LDO Voltage Regulators 300mA High Speed Votage Regulator; Rating: 300m; Validation: Valid; Type: LDO; Package: SOT-23-5; Value: 3.3V
footprint SOT95P280X130-5N
pins: 1 VIN, 2 VSS, 3 CE, 4 NC, 5 VOUT

## IC_RF_PT2262
designator U?, comment Inflow: 5216  (hidden comment: PT2272-M4)
Remote control encoder; Rating: Rating?; Validation: NT; Value: PT2272-M4; Package: Package?; Type: Type?
footprint DIP 18
pins: 1 A0, 2 A1, 3 A2, 4 A3, 5 A4, 6 A5, 7 A6/D5, 8 A7/D4, 9 VSS, 10 A8/D3, 11 A9/D2, 12 A10/D1, 13 A11/D0, 14 TE, 15 OSC2, 16 OSC1, 17 DOUT, 18 VCC

## IC_RF_PT2272-L4
designator U?, comment Inflow: 5222  (hidden comment: PT2272-L4)
Remote Control Decoder; Rating: Rating?; Validation: NT; Value: PT2272-L4; Package: Package?; Type: Type?
footprint DIP 18
pins: 1 A0, 2 A1, 3 A2, 4 A3, 5 A4, 6 A5, 7 A6, 8 A7, 9 VSS, 10 D3, 11 D2, 12 D1, 13 D0, 14 DIN, 15 OSC2, 16 OSC1, 17 VT, 18 VCC

## IC_RF_PT2272-M4
designator U?, comment Inflow: 5219  (hidden comment: PT2272-M4)
Remote Control Decoder; Rating: Rating?; Validation: NT; Value: PT2272-M4; Package: Package?; Type: Type?
footprint DIP 18
pins: 1 A0, 2 A1, 3 A2, 4 A3, 5 A4, 6 A5, 7 A6, 8 A7, 9 VSS, 10 D3, 11 D2, 12 D1, 13 D0, 14 DIN, 15 OSC2, 16 OSC1, 17 VT, 18 VCC

## IC_RTC_DS1307
designator U?, comment Inflow: inflow?  (hidden comment: DS1307)
64 X 8 Serial Real-Time Clock; Rating: Rating?; Validation: Valid; Package: SO-8; Type: RTC; Value: DS1307
footprint SO8_NARROW_N (8-Pin Small Outline Package (SO8), IPC Medium Density)
footprint SO8_NARROW_L (8-Pin Small Outline Package (SO8), IPC High Density)
footprint SO8_NARROW_M (8-Pin Small Outline Package (SO8), IPC Low Density)
footprint PDIP8 (8-Pin Plastic DIP (PD8) NARROW_(300mil width) - 100mil pitch)
footprint CDIP8 (8-Pin Ceramic DIP (DD8) NARROW_(300mil width) - 100mil pitch)
pins: 1 X1 (in), 2 X2 (in), 3 VBAT (power), 4 GND (power), 5 SDA (io), 6 SCL (in), 7 SQW/OUT (out), 8 VCC (power)

## IC_RTC_DS3231
designator U?, comment DS3231
Real-Time Clock, I2C, +IntCryst; Rating: Rating?; Inflow: inflow?; Validation: Valid; Package: SO-16; Type: RTC; Value: DS3231
footprint SO16_M (16-Pin Small Outline Integrated Circuit 1.27 mm Pitch, IPC Low Density - DESIGNER ABBAS BASEREH)
footprint SO16_L (16-Pin Small Outline Integrated Circuit 1.27 mm Pitch, IPC High Density - DESIGNER ABBAS BASEREH)
footprint SO16_N (16-Pin Small Outline Integrated Circuit 1.27 mm Pitch, IPC Medium Density - DESIGNER ABBAS BASEREH)
pins: 1 32KHZ (out), 2 VCC (power), 3 SQW/INT# (out), 4 ~{RST} (in), 5 NC, 6 NC, 7 NC, 8 NC, 9 NC, 10 NC, 11 NC, 12 NC, 13 GND (power), 14 VBAT (power), 15 SDA (io), 16 SCL (in)

## IC_Timer_NE555_SMD
designator U?, comment Inflow: 8109  (hidden comment: NE555)
Astable or monostable operation timer; Rating: Rating?; Validation: Valid; Value: NE555; Package: Package?; Type: Type?
footprint SO8_narrow_n (8-Pin Small Outline Package (SO8), IPC Medium Density)
footprint SO8_narrow_m (8-Pin Small Outline Package (SO8), IPC Low Density)
footprint SO8_narrow_l (8-Pin Small Outline Package (SO8), IPC High Density)
pins: 1 GND (power), 2 TRIG (in), 3 OUT (out), 4 ~{RST} (in), 5 CVOLT, 6 THR (in), 7 DISC (oc), 8 VCC (power)

## IC_Timer_NE555_THT
designator U?, comment Inflow: 1330  (hidden comment: NE555)
Astable or monostable operation timer; Rating: Rating?; Validation: Valid; Value: NE555; Package: Package?; Type: Type?
footprint PDIP8 (8-Pin Plastic DIP (PD8) NARROW_(300mil width) - 100mil pitch)
footprint CDIP8 (8-Pin Ceramic DIP (DD8) NARROW_(300mil width) - 100mil pitch)
pins: 1 GND (power), 2 TRIG (in), 3 OUT (out), 4 ~{RST} (in), 5 CVOLT, 6 THR (in), 7 DISC (oc), 8 VCC (power)

## IC_USB_IP6505
designator U?, comment IP6505
24W Max Synchronous-Rectified Buck Converter for DCP/QC2.0/QC3.0/FCP/SCP/AFC/SFCP; Rating: Rating?; Inflow: inflow?; Validation: NT; Type: USB-QC; Package: SO-8; Value: IP6505
footprint ESOP-8_W_PAD
pins: 1 SW (io), 2 SW (io), 3 BST (io), 4 NC (io), 5 DM (io), 6 DP (io), 7 VIN (io), 8 VOUT (io), PAD GND (io)

## IC_USB_IP6520
designator U?, comment IP6520
20W PD output, integrated with multiple fast charging output protocols DCP/QC2.0/QC3.0/FCP/HSCP/AFC/MTK PE/ PD3.0/PPS; Rating: Rating?; Inflow: inflow?; Validation: NT; Type: USB-QC; Package: SO-8; Value: IP6520
footprint ESOP-8_W_PAD
pins: 1 VOUT (io), 2 VIN (io), 3 SW (io), 4 BST (io), 5 DM (io), 6 DP (io), 7 CC1 (io), 8 CC2 (io), PAD GND (io)